# Altium schematic symbol library CUI-DS04-254-SMT-Series.SchLib: 1 symbol
Pins are listed as number, name and electrical type; pins without a type are passive.

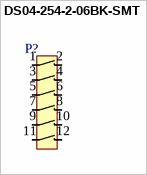
[diagram p0: symbol DS04-254-2-06BK-SMT]

## DS04-254-2-06BK-SMT
designator P?  (value not drawn)
Type: DS04-254-2-06BK-SMT
footprint CUI-DS04-254-2-06BK-SMT_C (Dip Switch SPST 6 Position Surface Mount Slide (Standard) Actuator 25mA 24VDC)
pins: 1, 2, 3, 4, 5, 6, 7, 8, 9, 10, 11, 12